# Altium footprint library components.PcbLib: 24 footprints (part 1 of 2)
Each footprint in its own frame and in the unit in brackets; x right, y up, seen from the top. Pads: shape width x height; smd on the part's side, far side on the other; paste and mask are expansions set on the pad; w line width, h text height; cw(c..) or ccw(c..) is an arc to the next point about the centre after c.
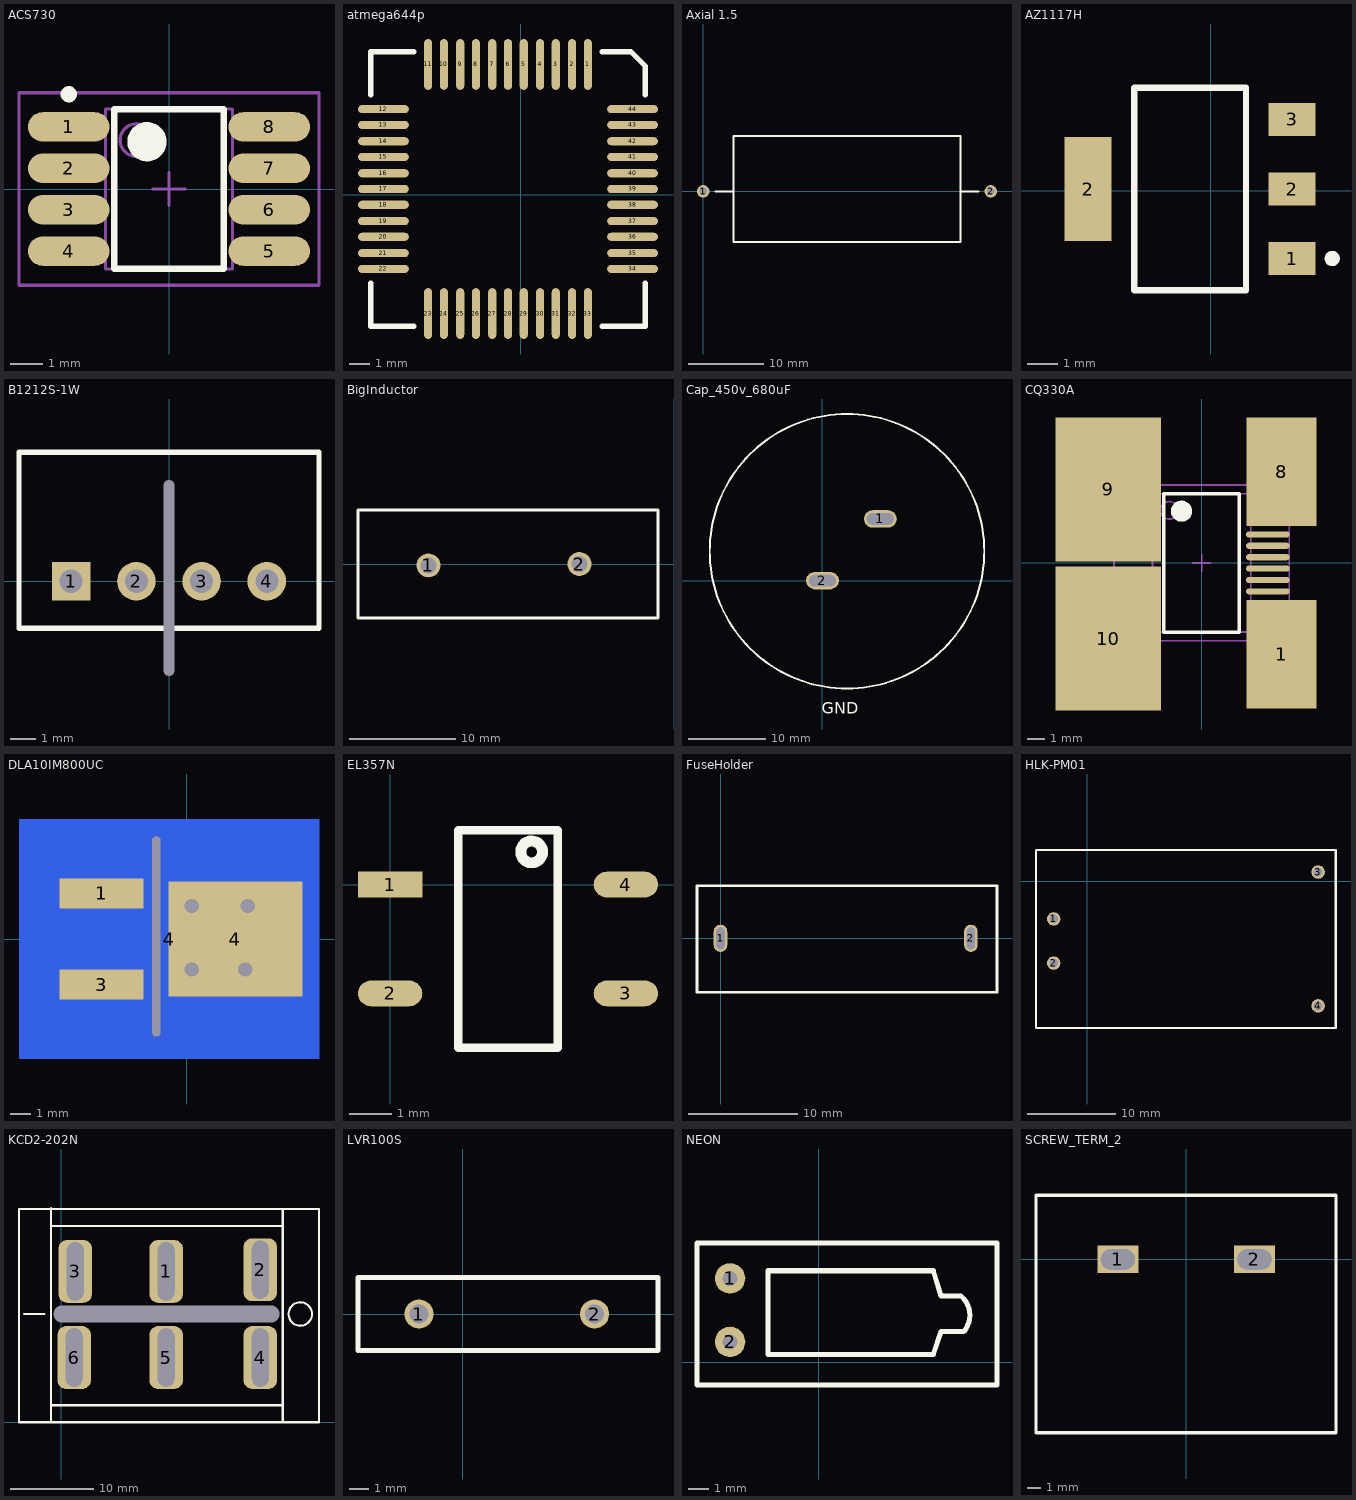
[diagram p0: the footprints below, top view; thin cyan lines are the x and y axes]

## ACS730 [mm] "SOIC, 8-Leads, Body 4.9x3.9mm (max), Pitch 1.27mm, IPC Low Density"
height 1.75
pads (8):
  oval 2.5x0.9 smd: 1(-3.075,1.905) 2(-3.075,0.635) 3(-3.075,-0.635) 4(-3.075,-1.905) 5(3.075,-1.905) 6(3.075,-0.635) 7(3.075,0.635) 8(3.075,1.905)
Top Overlay:
  circle w0.6: c-0.675,1.45 r0.3
  circle w0.25: c-3.075,2.905 r0.125
  lines w0.2: -1.675,-2.45 1.675,-2.45 1.675,2.45 -1.675,2.45 -1.675,-2.45
Mechanical 13:
  circle w0.1: c-1,1.5 r0.5
  lines w0.1: -1.95,-2.45 1.95,-2.45 1.95,2.45 -1.95,2.45 -1.95,-2.45
Mechanical 15:
  lines w0.1: -0.5,0 0.5,0 ; 0,-0.5 0,0.5 ; -4.6,-2.95 4.6,-2.95 4.6,2.95 -4.6,2.95 -4.6,-2.95
3D body: height 1.75, standoff 0.25, extent -1.95,-2.45 1.95,2.45

## atmega644p [mil]
pads (44):
  oval 16x100 smd: 1(131.7,256.02) 2(100.7,256.02) 3(68.7,256.02) 4(37.7,256.02) 5(5.7,256.02) 6(-25.3,256.02) 7(-56.3,256.02) 8(-88.3,256.02) 9(-119.3,256.02) 10(-151.3,256.02) 11(-182.3,256.02) 23(-182.3,-233.98) 24(-151.3,-233.98) 25(-119.3,-233.98) 26(-88.3,-233.98) 27(-56.3,-233.98) 28(-25.3,-233.98) 29(5.7,-233.98) 30(37.7,-233.98) 31(68.7,-233.98) 32(100.7,-233.98) 33(131.7,-233.98)
  oval 100x16 smd: 12(-270.3,168.02) 13(-270.3,137.02) 14(-270.3,105.02) 15(-270.3,74.02) 16(-270.3,42.02) 17(-270.3,11.02) 18(-270.3,-19.98) 19(-270.3,-51.98) 20(-270.3,-82.98) 21(-270.3,-114.98) 22(-270.3,-145.98) 34(219.7,-145.98) 35(219.7,-114.98) 36(219.7,-82.98) 37(219.7,-51.98) 38(219.7,-19.98) 39(219.7,11.02) 40(219.7,42.02) 41(219.7,74.02) 42(219.7,105.02) 43(219.7,137.02) 44(219.7,168.02)
Top Overlay:
  lines w10: -295.3,-173.98 -295.3,-258.98 -210.3,-258.98 ; -295.3,196.02 -295.3,281.02 -210.3,281.02 ; 159.7,-258.98 244.7,-258.98 244.7,-173.98 ; 159.7,281.02 216.7,281.02 244.7,253.02 244.7,196.02
3D body: height 39.37, standoff 0, extent -218.69,-188.86 190.76,216.65

## Axial 1.5 [mil]
pads (2):
  round 65 hole 40: 1(0,0) 2(1500,0)
Top Overlay:
  lines w10: 65,0 157.5,0 ; 1342.5,0 1435,0 ; 157.5,0 157.5,-265 1342.5,-265 1342.5,290 157.5,290 157.5,0

## AZ1117H [mm]
pads (4):
  rect 1.55x1.1 smd: 1(2.702,-2.25) 2(2.702,0.05) 3(2.702,2.35)
  rect 1.55x3.45 smd: 2(-4.048,0.05)
Top Overlay:
  circle w0.25: c4.027,-2.25 r0.125
  lines w0.2: -2.523,-3.3 1.177,-3.3 1.177,3.4 -2.523,3.4 -2.523,-3.3
3D body: height 4, standoff 0, extent -2.452,-3.228 1.148,3.372

## B1212S-1W [mm]
pads (5):
  rect 1.5x1.5 hole 0.9: 1(-3.81,0)
  round 1.5 hole 0.9: 2(-1.27,0) 3(1.27,0) 4(3.81,0)
  round 0 hole 0.406 slot 7.62 at 90 deg: ""(0,0.127)
Top Overlay:
  lines w0.2: -5.842,-1.832 -5.842,5.026 5.842,5.026 5.842,-1.832 -5.842,-1.832

## BigInductor [mm]
pads (2):
  round 2.25 hole 1.5: 1(-23.098,-0.127) 2(-8.906,0)
Top Overlay:
  lines w0.254: -29.718,-5.08 -29.718,5.08 -1.524,5.08 -1.524,-5.08 -29.718,-5.08

## Cap_450v_680uF [mm]
pads (2):
  oval 4.25x2.25 hole 1.5 slot 3.5 at 0 deg: 1(7.5,8) 2(0,0)
Top Overlay:
  circle w0.254: c3.175,3.81 r17.78
  text "GND" at -0.127,-17.272 h1.52

## CQ330A [mm] "TSOP, 24-Leads, Body 7.9x5.6mm (max), Pitch 0.65mm, IPC Low Density"
height 1.15
pads (10):
  rect 4x6.2 smd: 1(4.572,-5.207) 8(4.572,5.207)
  oval 2.5x0.35 smd: 2(3.779,-1.625) 3(3.779,-0.975) 4(3.779,-0.325) 5(3.779,0.325) 6(3.779,0.975) 7(3.779,1.625)
  rect 6x8.25 smd: 9(-5.334,4.191) 10(-5.334,-4.318)
Top Overlay:
  circle w0.25: c-3.525,4.3 r0.125
  circle w0.6: c-1.15,2.95 r0.3
  lines w0.2: -2.15,-3.95 -2.15,3.95 2.15,3.95 2.15,-3.95 -2.15,-3.95
Mechanical 13:
  circle w0.1: c-1.85,3 r0.5
  lines w0.1: -2.8,-3.95 -2.8,3.95 2.8,3.95 2.8,-3.95 -2.8,-3.95
Mechanical 15:
  lines w0.1: -0.5,0 0.5,0 ; 0,-0.5 0,0.5 ; -5,-4.45 -5,4.45 5,4.45 5,-4.45 -5,-4.45
3D body: height 1.15, standoff 0.15, extent -2.8,-3.95 2.8,3.95

## DLA10IM800UC [mm] "D-PAK, 3-Pads, Body 6.3x6.8mm (max), IPC Low Density"
height 2.4
pads (5):
  rect 4.2x1.5 smd: 1(-4.254,2.28) 3(-4.254,-2.28)
  round 0 hole 0.406 slot 10 at 90 deg: 4(-1.524,0.127)
  rect 15x12 smd far side: 4(-0.889,0)
  rect 6.7x5.75 smd: 4(2.427,0)
via 0.254,1.651 diameter 1.27 hole 0.711
via 3.048,1.651 diameter 1.27 hole 0.711
via 0.254,-1.524 diameter 1.27 hole 0.711
via 2.921,-1.524 diameter 1.27 hole 0.711
Top Overlay:
  circle w0.25: c-3.7,3.65 r0.125
Mechanical 13:
  lines w0.1: -3.5,-3.4 -3.5,3.4 2.8,3.4 2.8,-3.4 -3.5,-3.4
Mechanical 15:
  lines w0.1: -0.5,0 0.5,0 ; 0,-0.5 0,0.5 ; -6.125,-3.95 -6.125,3.95 6.125,3.95 6.125,-3.95 -6.125,-3.95
3D body: height 2.4, standoff 0.6, extent -3.5,-3.4 2.8,3.4

## EL357N [mm]
pads (4):
  rect 1.5x0.6 smd: 1(0,0)
  oval 1.5x0.6 smd: 2(0,-2.54) 3(5.5,-2.54) 4(5.5,0)
Top Overlay:
  circle w0.254: c3.302,0.762 r0.254
  lines w0.2: 1.585,-3.81 1.585,1.27 3.915,1.27 3.915,-3.81 1.585,-3.81

## FuseHolder [mm]
pads (2):
  oval 1.25x2.5 hole 0.75 slot 2 at 90 deg: 1(0,0) 2(23,0)
Top Overlay:
  lines w0.254: -2.159,-4.953 25.4,-4.953 25.4,4.826 -2.159,4.826 -2.159,-4.953

## HLK-PM01 [mil]
pads (4):
  round 60 hole 39.37: 1(-151,-168) 2(-151,-365) 3(1030,41.56) 4(1030,-556.32)
Top Overlay:
  lines w10: 1109,-655 1109,140 -230,140 -230,-655 1110,-655

## KCD2-202N [mm]
height 18
pads (7):
  rrect50% 4x7.5 hole 2 slot 7 at 90 deg: 1(12.526,18.047) 2(23.788,18.247) 3(1.651,18.047) 4(23.788,7.747) 5(12.526,7.747) 6(1.524,7.747)
  round 0 hole 2 slot 27 at 0 deg: ""(12.573,12.954)
Top Overlay:
  circle w0.254: c28.569,12.954 r1.403
  lines w0.254: -4.445,12.954 -2.032,12.954 ; -1.27,0.127 -1.27,25.627 ; -1.27,2.032 26.416,2.032 ; -1.27,23.495 26.416,23.495 ; 26.47,0.127 26.47,25.373 ; 30.682,0 -5.08,0 -5.08,25.5 30.809,25.5 30.809,0

## LVR100S [mil]
pads (2):
  round 60 hole 39.37: 1(-90,0) 2(270,0)
Top Overlay:
  lines w10: -215,-75 -215,75 ; -213,75 400,75 400,-75 -210,-75

## NEON [mil]
pads (2):
  round 60 hole 30: 1(-175,165) 2(-175,40)
Top Overlay:
  lines w10: -240,-45 350.55,-45 350.55,235 -240,235 -240,-45 ; -100,15.16 -100,180.16 225,180.16 240,130.16 280,130.16 cw(c247.5,92.66) 285,60.16 240,60.16 225,15.16 -100,15.16

## SCREW_TERM_2 [mm]
pads (2):
  rect 3x2 hole 1.5 slot 2.5 at 0 deg: 1(-5,0) 2(5,0)
Top Overlay:
  lines w0.254: -10.998,-12.7 10.973,-12.7 10.973,4.699 -10.998,4.699 -10.998,-12.7